# EAGLE library part METRO-MINI-328 (library Adafruit_Modules)
Adafruit Metro Mini 328 - Arduino-Compatible - 5V 16MHz
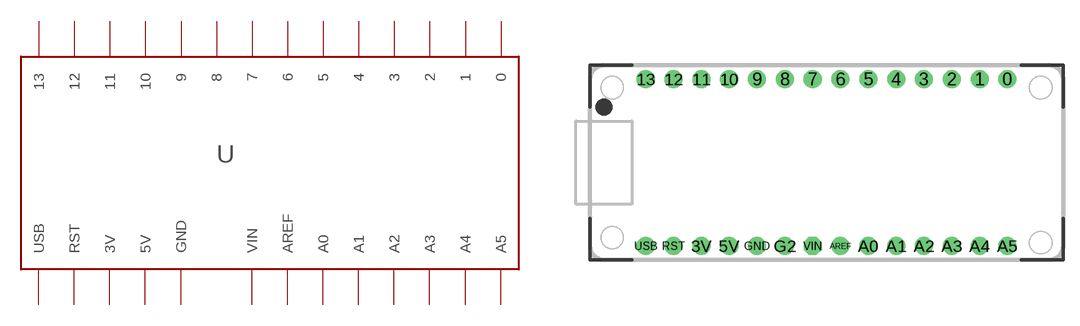
[diagram p29: symbol with the pads of METRO-MINI; footprint METRO-MINI]

Designator prefix -

## METRO-MINI-328 (ADAFRUIT: 2590)  [METRO-MINI]
0  0
1  1
2  2
3  3
3V  3V  out
4  4
5  5
5V  5V  out
6  6
7  7
8  8
9  9
10  10
11  11
12  12
13  13
A0  A0
A1  A1
A2  A2
A3  A3
A4  A4
A5  A5
AREF  AREF  in
G2  GND  pwr
GND  GND  pwr
RST  RST  pas
USB  USB  out
VIN  VIN  pwr

## Footprint METRO-MINI (pad centres in mm)
Adafruit Metro Mini 328
drill 1.1: 0 16.51,7.62; 1 13.97,7.62; 2 11.43,7.62; 3 8.89,7.62; 3V -11.43,-7.62; 4 6.35,7.62; 5 3.81,7.62; 5V -8.89,-7.62; 6 1.27,7.62; 7 -1.27,7.62; 8 -3.81,7.62; 9 -6.35,7.62; 10 -8.89,7.62; 11 -11.43,7.62; 12 -13.97,7.62; 13 -16.51,7.62; A0 3.81,-7.62; A1 6.35,-7.62; A2 8.89,-7.62; A3 11.43,-7.62; A4 13.97,-7.62; A5 16.51,-7.62; AREF 1.27,-7.62; G2 -3.81,-7.62; GND -6.35,-7.62; RST -13.97,-7.62; USB -16.51,-7.62
drill 1.1 octagon: VIN -1.27,-7.62